# EAGLE library part S25FL256 (library SLJ_Memory)
FLASH - NOR Memory IC 256Mb (32M x 8) SPI - Quad I/O, QPI 133MHz 24-BGA (6x8)
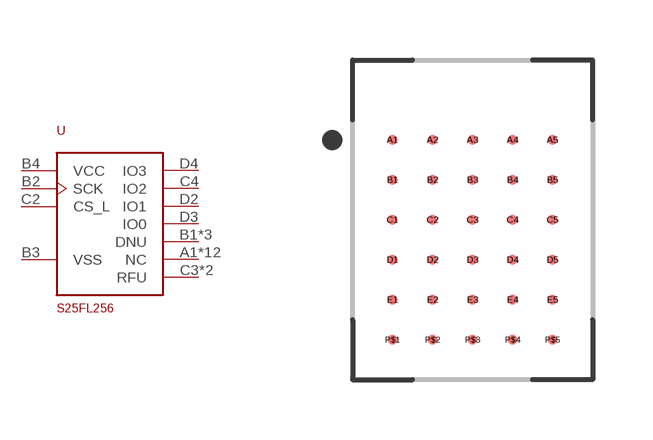
[diagram p0: symbol with the pads of BGA25C100P5X5_800X600X120; footprint BGA25C100P5X5_800X600X120]

Designator prefix U

## S25FL256 (MANUFACTURER: Cypress Semiconductor; PART_NUMBER: S25FL256LAGBHV030; VALUE: 32MB)  [BGA25C100P5X5_800X600X120]
A1  NC  nc
A2  NC  nc
A3  NC  nc
A4  NC  nc
A5  NC  nc
B1  DNU  nc
B2  SCK  in
B3  VSS  pwr
B4  VCC  pwr
B5  NC  nc
C1  DNU  nc
C2  CS_L  in
C3  RFU  in
C4  IO2
C5  NC  nc
D1  DNU  nc
D2  IO1
D3  IO0
D4  IO3
D5  NC  nc
E1  NC  nc
E2  NC  nc
E3  NC  nc
E4  RFU  in
E5  NC  nc

## Footprint BGA25C100P5X5_800X600X120 (pad centres in mm)
25-BGA, collapsing, 1.00 mm pitch, 8.00 X 6.00 X 1.20 mm body 25-pin collapsing BGA package with 1.00 mm col pitch and 1.00 mm row pitch with body size 8.00 X 6.00 X 1.20 mm
smd 0.25 x 0.25: A1 -2,2; A2 -1,2; A3 0,2; A4 1,2; A5 2,2; B1 -2,1; B2 -1,1; B3 0,1; B4 1,1; B5 2,1; C1 -2,0; C2 -1,0; C3 0,0; C4 1,0; C5 2,0; D1 -2,-1; D2 -1,-1; D3 0,-1; D4 1,-1; D5 2,-1; E1 -2,-2; E2 -1,-2; E3 0,-2; E4 1,-2; E5 2,-2; P$1 -2,-3; P$2 -1,-3; P$3 0,-3; P$4 1,-3; P$5 2,-3